# EAGLE library part HE (library dragino)
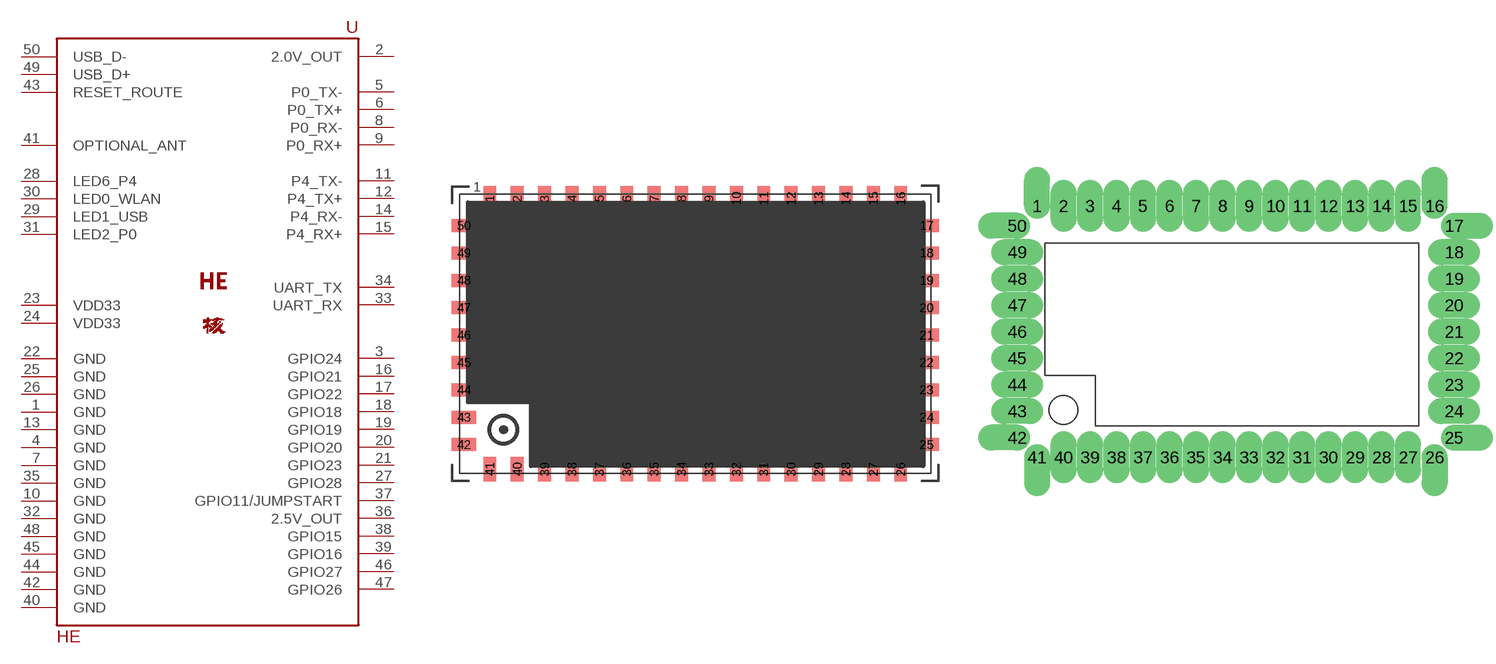
[diagram p11: symbol with the pads of HE50; footprints HE50, HE50_TRH]

Designator prefix -

## HE  [HE50]
1  GND  pwr
2  2.0V_OUT
3  GPIO24  nc
4  GND  pwr
5  P0_TX-
6  P0_TX+
7  GND  pwr
8  P0_RX-
9  P0_RX+
10  GND  pwr
11  P4_TX-
12  P4_TX+
13  GND  pwr
14  P4_RX-
15  P4_RX+
16  GPIO21
17  GPIO22
18  GPIO18
19  GPIO19
20  GPIO20
21  GPIO23
22  GND  pwr
23  VDD33  pwr
24  VDD33  pwr
25  GND  pwr
26  GND  pwr
27  GPIO28
28  LED6_P4
29  LED1_USB
30  LED0_WLAN
31  LED2_P0
32  GND  pwr
33  UART_RX
34  UART_TX
35  GND  pwr
36  2.5V_OUT
37  GPIO11/JUMPSTART
38  GPIO15
39  GPIO16
40  GND  pwr
41  OPTIONAL_ANT  pwr
42  GND  pwr
43  RESET_ROUTE
44  GND  pwr
45  GND  pwr
46  GPIO27
47  GPIO26
48  GND  pwr
49  USB_D+
50  USB_D-

## HETEST  [HE50_TRH]
1  GND  pwr
2  2.0V_OUT
3  GPIO24  nc
4  GND  pwr
5  P0_TX-
6  P0_TX+
7  GND  pwr
8  P0_RX-
9  P0_RX+
10  GND  pwr
11  P4_TX-
12  P4_TX+
13  GND  pwr
14  P4_RX-
15  P4_RX+
16  GPIO21
17  GPIO22
18  GPIO18
19  GPIO19
20  GPIO20
21  GPIO23
22  GND  pwr
23  VDD33  pwr
24  VDD33  pwr
25  GND  pwr
26  GND  pwr
27  GPIO28
28  LED6_P4
29  LED1_USB
30  LED0_WLAN
31  LED2_P0
32  GND  pwr
33  UART_RX
34  UART_TX
35  GND  pwr
36  2.5V_OUT
37  GPIO11/JUMPSTART
38  GPIO15
39  GPIO16
40  GND  pwr
41  OPTIONAL_ANT  pwr
42  GND  pwr
43  RESET_ROUTE
44  GND  pwr
45  GND  pwr
46  GPIO27
47  GPIO26
48  GND  pwr
49  USB_D+
50  USB_D-

## Footprint HE50 (pad centres in mm)
Dragino HE module package outline
smd 1.2 x 2.3: 1 -19.05,12.55; 2 -16.51,12.55; 3 -13.97,12.55; 4 -11.43,12.55; 5 -8.89,12.55; 6 -6.35,12.55; 7 -3.81,12.55; 8 -1.27,12.55; 9 1.27,12.55; 10 3.81,12.55; 11 6.35,12.55; 12 8.89,12.55; 13 11.43,12.55; 14 13.97,12.55; 15 16.51,12.55; 16 19.05,12.55; 26 19.05,-12.55; 27 16.51,-12.55; 28 13.97,-12.55; 29 11.43,-12.55; 30 8.89,-12.55; 31 6.35,-12.55; 32 3.81,-12.55; 33 1.27,-12.55; 34 -1.27,-12.55; 35 -3.81,-12.55; 36 -6.35,-12.55; 37 -8.89,-12.55; 38 -11.43,-12.55; 39 -13.97,-12.55; 40 -16.51,-12.55; 41 -19.05,-12.55
smd 2.3 x 1.2: 17 21.45,10.05; 18 21.45,7.51; 19 21.45,4.97; 20 21.45,2.43; 21 21.45,-0.11; 22 21.45,-2.65; 23 21.45,-5.19; 24 21.45,-7.73; 25 21.45,-10.27; 42 -21.45,-10.27; 43 -21.45,-7.73; 44 -21.45,-5.19; 45 -21.45,-2.65; 46 -21.45,-0.11; 47 -21.45,2.43; 48 -21.45,4.97; 49 -21.45,7.51; 50 -21.45,10.05

## Footprint HE50_TRH (pad centres in mm)
drill 1.65 pad 1.9 offset: 1 0,0; 16 38.1,0; 17 39.967,-1.892; 25 39.967,-22.212; 26 38.1,-24.092; 41 0,-24.092; 42 -1.892,-22.212; 50 -1.892,-1.892
drill 1.65 pad 1.9 long: 2 2.54,0; 3 5.08,0; 4 7.62,0; 5 10.16,0; 6 12.7,0; 7 15.24,0; 8 17.78,0; 9 20.32,0; 10 22.86,0; 11 25.4,0; 12 27.94,0; 13 30.48,0; 14 33.02,0; 15 35.56,0; 18 39.967,-4.432; 19 39.967,-6.972; 20 39.967,-9.512; 21 39.967,-12.052; 22 39.967,-14.592; 23 39.967,-17.132; 24 39.967,-19.672; 27 35.56,-24.092; 28 33.02,-24.092; 29 30.48,-24.092; 30 27.94,-24.092; 31 25.4,-24.092; 32 22.86,-24.092; 33 20.32,-24.092; 34 17.78,-24.092; 35 15.24,-24.092; 36 12.7,-24.092; 37 10.16,-24.092; 38 7.62,-24.092; 39 5.08,-24.092; 40 2.54,-24.092; 43 -1.892,-19.672; 44 -1.892,-17.132; 45 -1.892,-14.592; 46 -1.892,-12.052; 47 -1.892,-9.512; 48 -1.892,-6.972; 49 -1.892,-4.432